# EAGLE library part DIGITALIN (library ControlBoard)
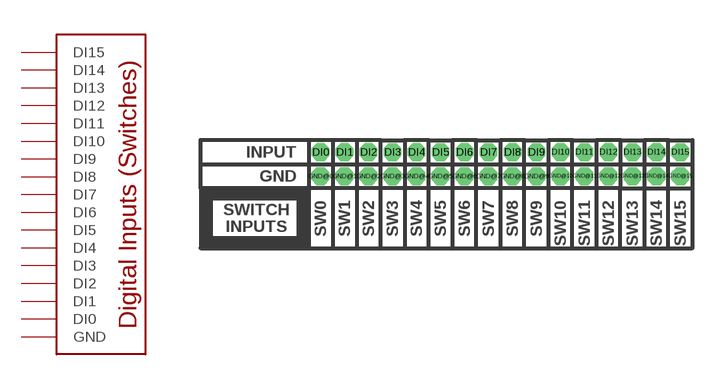
[diagram p2: symbol with the pads of DIGITALIN; footprint DIGITALIN]

Designator prefix -

## DIGITALIN  [DIGITALIN]
DI0  DI0
DI1  DI1
DI2  DI2
DI3  DI3
DI4  DI4
DI5  DI5
DI6  DI6
DI7  DI7
DI8  DI8
DI9  DI9
DI10  DI10
DI11  DI11
DI12  DI12
DI13  DI13
DI14  DI14
DI15  DI15
GND@0  GND  pwr
GND@1  GND  pwr
GND@2  GND  pwr
GND@3  GND  pwr
GND@4  GND  pwr
GND@5  GND  pwr
GND@6  GND  pwr
GND@7  GND  pwr
GND@8  GND  pwr
GND@9  GND  pwr
GND@10  GND  pwr
GND@11  GND  pwr
GND@12  GND  pwr
GND@13  GND  pwr
GND@14  GND  pwr
GND@15  GND  pwr

## Footprint DIGITALIN (pad centres in mm)
drill 1.016 pad 1.88 octagon: DI0 -17.78,2.54; DI1 -15.24,2.54; DI2 -12.7,2.54; DI3 -10.16,2.54; DI4 -7.62,2.54; DI5 -5.08,2.54; DI6 -2.54,2.54; DI7 0,2.54; DI8 2.54,2.54; DI9 5.08,2.54; DI10 7.62,2.54; DI11 10.16,2.54; DI12 12.7,2.54; DI13 15.24,2.54; DI14 17.78,2.54; DI15 20.32,2.54; GND@0 -17.78,0; GND@1 -15.24,0; GND@2 -12.7,0; GND@3 -10.16,0; GND@4 -7.62,0; GND@5 -5.08,0; GND@6 -2.54,0; GND@7 0,0; GND@8 2.54,0; GND@9 5.08,0; GND@10 7.62,0; GND@11 10.16,0; GND@12 12.7,0; GND@13 15.24,0; GND@14 17.78,0; GND@15 20.32,0